# Altium schematic symbol library ERJ-3EKF1001V.SchLib: 1 symbol
Pins are listed as number, name and electrical type; pins without a type are passive.

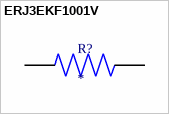
[diagram p0: symbol ERJ3EKF1001V]

## ERJ3EKF1001V
designator R?
MF: {'manufacturer': u'Panasonic'}; MP: ERJ3EKF1001V; Package: None; Price: None; Value: *; Availability: Unavailable
footprint RES_ERJ3EKF1001V
pins: 1, 2